# Altium footprint library MiscDevices.PcbLib: 12 footprints
Each footprint in its own frame and in the unit in brackets; x right, y up, seen from the top. Pads: shape width x height; smd on the part's side, far side on the other; paste and mask are expansions set on the pad; w line width, h text height; cw(c..) or ccw(c..) is an arc to the next point about the centre after c.
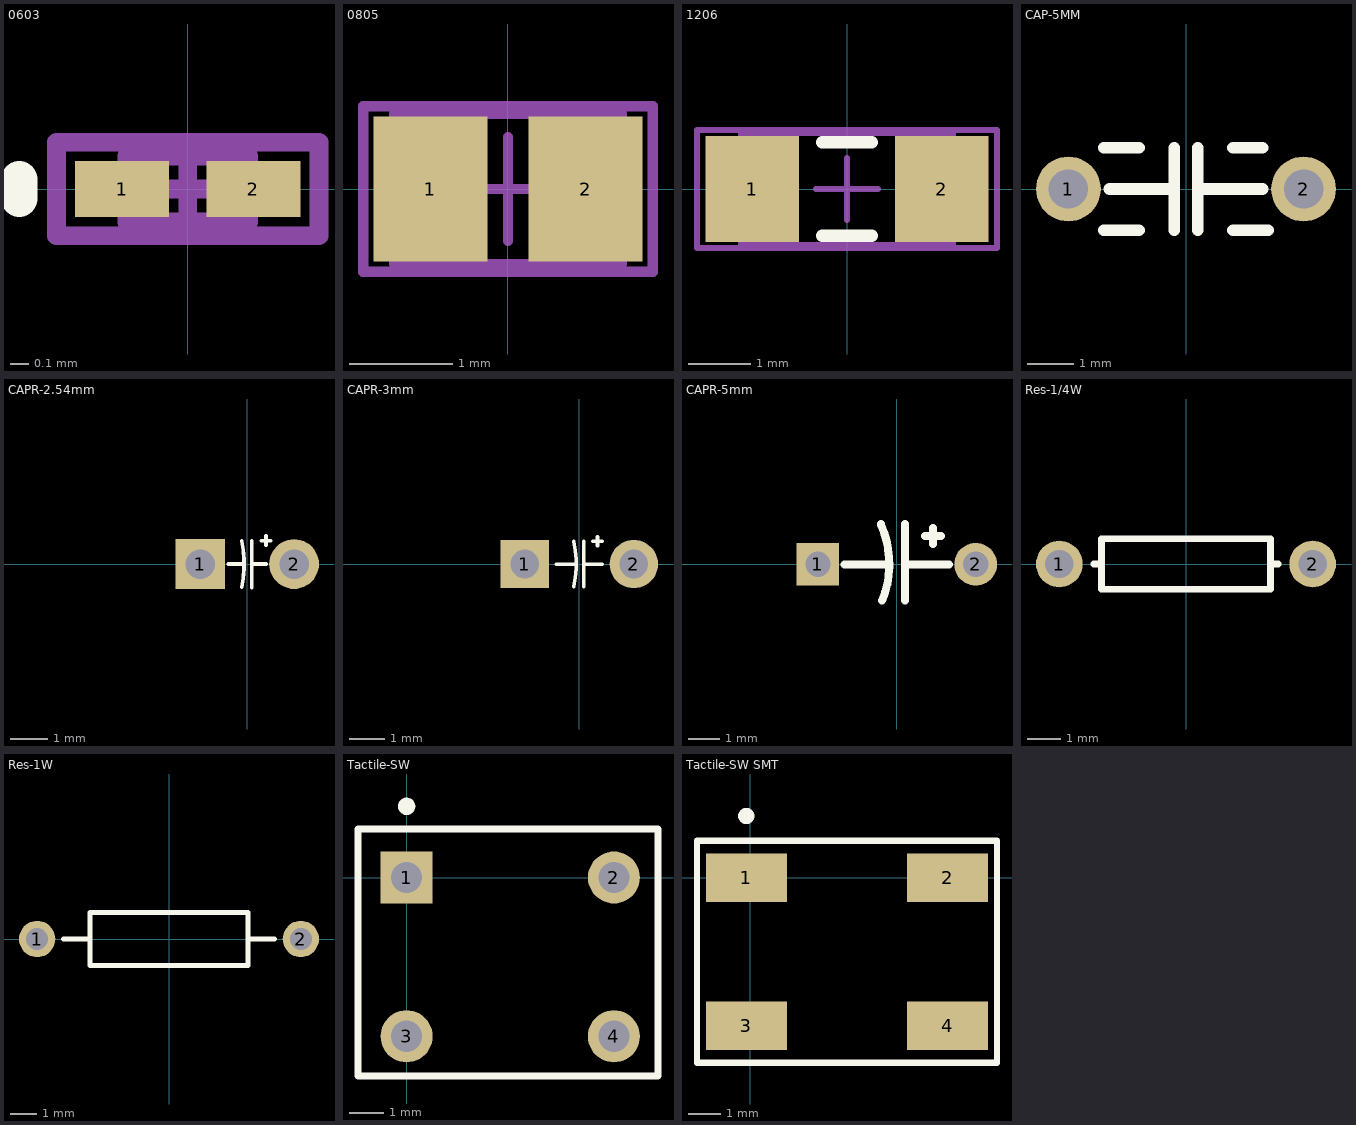
[diagram p0: the footprints below, top view; thin cyan lines are the x and y axes]

## 0603 [mm] "Chip Inductor, Body 0.6x0.3mm, IPC High Density"
height 0.55
pads (2):
  rect 0.5x0.3 smd: 1(-0.35,0) 2(0.35,0)
Top Overlay:
  lines w0.2: -0.9,-0.05 -0.9,0.05
Mechanical 13:
  lines w0.1: -0.325,-0.175 0.325,-0.175 0.325,0.175 -0.325,0.175 -0.325,-0.175
Mechanical 15:
  lines w0.1: -0.175,0 0.175,0 ; 0,-0.175 0,0.175 ; -0.7,-0.25 0.7,-0.25 0.7,0.25 -0.7,0.25 -0.7,-0.25
3D body: height 0.55, standoff 0, extent -0.325,-0.175 0.325,0.175

## 0805 [mm] "Chip Capacitor, Body 2.0x1.3mm, IPC High Density"
height 1.4
pads (2):
  rect 1.1x1.4 smd: 1(-0.75,0) 2(0.75,0)
Mechanical 13:
  lines w0.1: -1.1,-0.725 1.1,-0.725 1.1,0.725 -1.1,0.725 -1.1,-0.725
Mechanical 15:
  lines w0.1: -0.5,0 0.5,0 ; 0,-0.5 0,0.5 ; -1.4,-0.8 1.4,-0.8 1.4,0.8 -1.4,0.8 -1.4,-0.8
3D body: height 1.4, standoff 0, extent -1.1,-0.725 1.1,0.725

## 1206 [mm] "Chip Capacitor, Body 3.2x1.6mm, Hand Solder"
height 1.3
pads (2):
  rect 1.5x1.7 smd: 1(-1.524,0) 2(1.524,0)
Top Overlay:
  lines w0.2: -0.4,-0.75 0.4,-0.75 ; -0.4,0.75 0.4,0.75
Mechanical 13:
  lines w0.1: -1.7,-0.9 -1.7,0.9 1.7,0.9 1.7,-0.9 -1.7,-0.9
Mechanical 15:
  lines w0.1: -0.5,0 0.5,0 ; 0,-0.5 0,0.5 ; -2.413,-0.95 -2.413,0.95 2.413,0.95 2.413,-0.95 -2.413,-0.95
3D body: height 1.3, standoff 0, extent -1.7,-0.9 1.7,0.9

## CAP-5MM [mm] "Thru-Hole; 2 Leads; 2.54mm Pin Spacing"
height 1.524
pads (2):
  round 1.4 hole 0.85: 1(-2.54,0) 2(2.54,0)
Top Overlay:
  lines w0.254: -1.778,-0.889 -1.016,-0.889 ; -1.778,0.889 -1.016,0.889 ; -1.651,0 -0.254,0 ; -0.254,-0.889 -0.254,0.889 ; 0.254,-0.889 0.254,0.889 ; 0.254,0 1.651,0 ; 1.016,-0.889 1.778,-0.889 ; 1.016,0.889 1.651,0.889

## CAPR-2.54mm [mm] "Capacitor; 2 Leads"
height 12
pads (2):
  rect 1.35x1.35 hole 0.8: 1(-1.27,0)
  round 1.35 hole 0.8: 2(1.27,0)
Top Overlay:
  lines w0.1: -0.508,0 -0.127,0 ; -0.151,-0.63 ccw(c-3.133,0.001) -0.15,0.63 ; 0.127,-0.635 0.127,0.635 ; 0.127,0 0.508,0 ; 0.381,0.635 0.635,0.635 ; 0.508,0.508 0.508,0.762

## CAPR-3mm [mm] "Capacitor; 2 Leads"
height 12
pads (2):
  rect 1.35x1.35 hole 0.8: 1(-1.524,0)
  round 1.35 hole 0.8: 2(1.524,0)
Top Overlay:
  lines w0.1: -0.635,0 -0.127,0 ; -0.151,-0.63 ccw(c-3.133,0.001) -0.15,0.63 ; 0.127,-0.635 0.127,0.635 ; 0.127,0 0.635,0 ; 0.381,0.635 0.635,0.635 ; 0.508,0.508 0.508,0.762

## CAPR-5mm [mm] "Capacitor; 2 Leads"
height 12
pads (2):
  rect 1.35x1.35 hole 0.8: 1(-2.5,0)
  round 1.35 hole 0.8: 2(2.5,0)
Top Overlay:
  lines w0.254: -1.651,0 -0.254,0 ; -0.508,1.27 cw(c-3.283,0.009) -0.462,-1.145 ; 0.254,-1.143 0.254,0 ; 0.254,1.27 0.254,0 ; 0.889,0.889 1.397,0.889 ; 1.143,0.635 1.143,1.143 ; 1.651,0 0.254,0

## PCBComponent_1 [mm]

## Res-1/4W [mm] "Axial Device, Thru-Hole; 2 Leads; 0.3 in Pin Spacing"
height 1.524
pads (2):
  round 1.4 hole 0.85: 1(-3.81,0) 2(3.81,0)
Top Overlay:
  lines w0.2: -2.769,0 -2.54,0 ; 2.769,0 2.54,0 ; 2.54,0 2.54,0.762 -2.54,0.762 -2.54,-0.762 2.54,-0.762 2.54,0

## Res-1W [mm] "Axial Device, Thru-Hole; 2 Leads; 0.4 in Pin Spacing"
height 2.032
pads (2):
  round 1.4 hole 0.85: 1(-5.08,0) 2(5.08,0)
Top Overlay:
  lines w0.2: -4.064,0 -3.048,0 ; 3.048,0 4.064,0 ; -3.048,-1.016 3.048,-1.016 3.048,1.016 -3.048,1.016 -3.048,-1.016

## Tactile-SW [mm] "Photosensitive Diode; 2 Leads"
pads (4):
  rect 1.5x1.5 hole 0.9: 1(0,0)
  round 1.5 hole 0.9: 2(5.969,0) 3(0,-4.572) 4(5.969,-4.572)
Top Overlay:
  circle w0.25: c0,2.05 r0.125
  lines w0.2: -1.4,-5.715 7.239,-5.715 7.239,1.4 -1.4,1.4 -1.4,-5.715

## Tactile-SW SMT [mm] "Photosensitive Diode; 2 Leads"
pads (4):
  rect 2.5x1.5 smd: 1(-0.127,0) 2(6.096,0) 3(-0.127,-4.572) 4(6.096,-4.572)
Top Overlay:
  circle w0.25: c-0.127,1.905 r0.125
  lines w0.2: -1.651,-5.715 7.62,-5.715 7.62,1.143 -1.651,1.143 -1.651,-5.715